# Altium footprint library FootPrintLib_2.PcbLib: 173 footprints (part 8 of 11)
Each footprint in its own frame and in the unit in brackets; x right, y up, seen from the top. Pads: shape width x height; smd on the part's side, far side on the other; paste and mask are expansions set on the pad; w line width, h text height; cw(c..) or ccw(c..) is an arc to the next point about the centre after c.
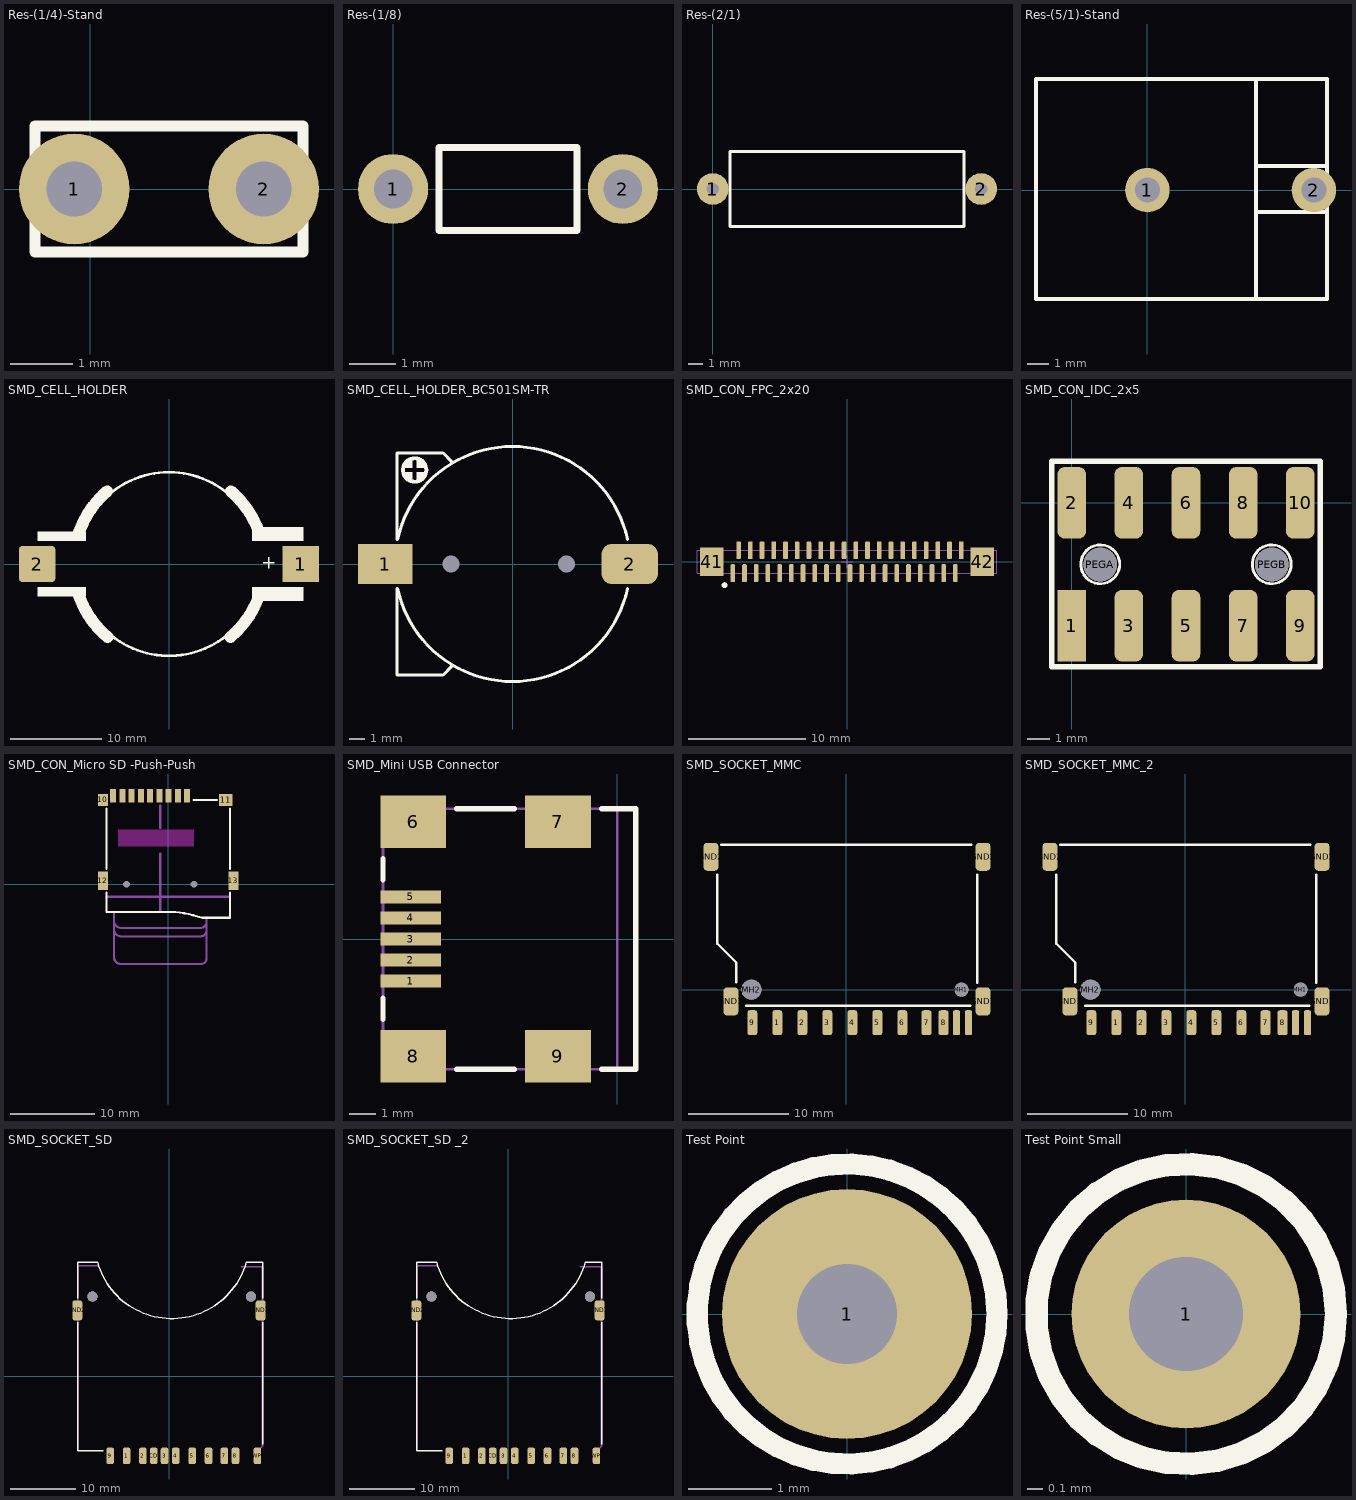
[diagram p7: the footprints below, top view; thin cyan lines are the x and y axes]

## Res-(1/4)-Stand [mil]
pads (2):
  round 70 hole 35: 1(-10,0) 2(110,0)
Top Overlay:
  lines w7: -35,-40 -35,40 135,40 135,-40 -35,-40
3D body "Res 0.25W_Stand.STEP": height 287.32, standoff -57.17, extent -35.08,-35.48 111.08,37

## Res-(1/8) [mil]
pads (2):
  round 60 hole 33: 1(0,0) 2(196.85,0)
Top Overlay:
  lines w5.91: 39.37,-35.43 157.48,-35.43 157.48,35.43 39.37,35.43 39.37,-35.43
3D body "Res_18.STEP": height 76.63, standoff -32.9, extent -9.84,-31.5 206.69,29.14

## Res-(2/1) [mm]
pads (2):
  round 2.2 hole 0.85: 1(0,0) 2(18.6,0)
Top Overlay:
  lines w0.2: 1.2,-2.6 1.2,2.6 17.4,2.6 17.4,-2.6 1.2,-2.6

## Res-(5/1)-Stand [mil]
pads (2):
  round 80 hole 45: 1(0,0) 2(300,0)
Top Overlay:
  lines w7: 195.69,-196 195.69,200 ; 195.69,-39.37 324,-39.37 ; 195.69,43.31 324,43.31 ; -200.79,-196 -200.79,200 324,200 324,-196 -200.79,-196
3D body "5W Res.STEP": height 907.48, standoff -94.49, extent -195.48,-194 319.48,199.7

## SMD_CELL_HOLDER [mm]
pads (2):
  rect 4x4 smd: 1(14.5,0)
  rrect20% 4x4 smd: 2(-14.5,0)
Top Overlay:
  region: 9.144,4.064 9.144,2.54 14.808,2.54 14.808,4.064
  region: 14.808,-4.064 14.808,-2.54 9.144,-2.54 9.144,-4.064
  region: -9.144,-3.556 -9.144,-2.54 -14.478,-2.54 -14.478,-3.556
  region: -14.478,3.556 -14.478,2.54 -9.144,2.54 -9.144,3.556
  lines w0.3: -7.122,-7.161 ccw(c0,0) 7.122,-7.161 ; -6.534,7.701 cw(c0,0) 6.534,7.701
  lines w1.3: -9.899,-3.5 ccw(c0,0) -6.771,-8.025 ; -9.897,3.508 cw(c0,0) -6.793,8.006 ; 6.771,-8.025 ccw(c0,0) 9.801,-3.766 ; 6.793,8.006 cw(c0,0) 9.801,3.766
  text "+" at 10.16,-0.508 h1.5
3D body "SMD_Cell_Holder_Full.STEP": height 5.4, standoff 0, extent -15.9,-10 15.9,10

## SMD_CELL_HOLDER_BC501SM-TR [mm] "BC501SM-TR Battery Holder (For CR1220 Cells)"
height 4
pads (4):
  rect 3.54x2.6 smd: 1(-8.25,0)
  rrect50% 3.66x2.6 smd: 2(7.6,0)
  round 0 hole 1.1: MH(-4,0) MH(3.5,0)
Top Overlay:
  circle w0.254: c-6.35,6.096 r0.762
  rectangle: -6.985,5.461 -6.477,5.969
  rectangle: -6.223,5.461 -5.715,5.969
  rectangle: -6.223,6.223 -5.715,6.727
  rectangle: -6.985,6.223 -6.477,6.727
  lines w0.2: -7.5,-1.584 -7.5,-7.2 -4.5,-7.2 -3.9,-6.6 ; -7.5,1.584 -7.5,7.2 -4.5,7.2 -3.9,6.6 ; -7.453,-1.584 ccw(c0,0) 7.453,-1.584 ; -7.453,1.584 cw(c0,0) 7.453,1.584

## SMD_CON_FPC_2x20 [mm] "FPC-XXS1VN3R"
pads (42):
  rrect50% 0.4x1.524 smd: 1(-9.75,-0.975) 2(-9.25,0.975) 3(-8.75,-0.975) 4(-8.25,0.975) 5(-7.75,-0.975) 6(-7.25,0.975) 7(-6.75,-0.975) 8(-6.25,0.975) 9(-5.75,-0.975) 10(-5.25,0.975) 11(-4.75,-0.975) 12(-4.25,0.975) 13(-3.75,-0.975) 14(-3.25,0.975) 15(-2.75,-0.975) 16(-2.25,0.975) 17(-1.75,-0.975) 18(-1.25,0.975) 19(-0.75,-0.975) 20(-0.25,0.975) 21(0.25,-0.975) 22(0.75,0.975) 23(1.25,-0.975) 24(1.75,0.975) 25(2.25,-0.975) 26(2.75,0.975) 27(3.25,-0.975) 28(3.75,0.975) 29(4.25,-0.975) 30(4.75,0.975) 31(5.25,-0.975) 32(5.75,0.975) 33(6.25,-0.975) 34(6.75,0.975) 35(7.25,-0.975) 36(7.75,0.975) 37(8.25,-0.975) 38(8.75,0.975) 39(9.25,-0.975) 40(9.75,0.975)
  rect 2x2.4 smd: 41(-11.55,0) 42(11.55,0)
Top Overlay:
  circle w0.25: c-10.45,-2 r0.125
Mechanical 13:
  lines w0.1: -12.8,-1 -12.8,1 12.8,1 12.8,-1 -12.8,-1
Mechanical 15:
  lines w0.1: -0.5,0 0.5,0 ; 0,-0.5 0,0.5
3D body "ZIF connector.stp": height 4.47, standoff -0.02, extent -12.118,-1.454 12.182,1.483

## SMD_CON_IDC_2x5 [mil]
pads (12):
  rect 50x125 smd: 1(0,-215)
  rrect50% 50x125 smd: 2(0,0) 3(100,-215) 4(100,0) 5(200,-215) 6(200,0) 7(300,-215) 8(300,0) 9(400,-215) 10(400,0)
  round 59.05 hole 59.06 unplated mask+1.5: PEGA(50,-108) PEGB(350,-108)
Top Overlay:
  circle w5: c50,-107.52 r34.06
  circle w5: c350,-107.52 r34.06
  lines w10: -35,-287 435,-287 435,73 -35,73 -35,-287
3D body "TSM-105-01-X-DV-A.STEP": height 10, standoff 0, extent -52.1,-253.2 447.9,36.8
3D body "10 Pin (2.5 mm Pitch) IDC Connector.stp": height 3028.11, standoff 154.09, extent -142.37,-270.25 538.38,60.45

## SMD_CON_Micro SD -Push-Push [mm]
pads (15):
  rect 0.7x1.6 smd: 1(2.25,10.5) 2(1.15,10.5) 3(0.05,10.5) 4(-1.05,10.5) 5(-2.15,10.5) 6(-3.25,10.5) 7(-4.35,10.5) 8(-5.45,10.5) 9(-6.55,10.5)
  rect 1.2x1.4 smd: 10(-7.75,10)
  rect 1.6x1.4 smd: 11(6.85,10)
  rect 1.2x2.2 smd: 12(-7.75,0.4) 13(7.75,0.4)
  round 0 hole 0.8: MH(-4.95,0) MH(3.05,0)
Top Overlay:
  lines w0.254: -7.35,-1 -7.35,-3.3 0,-3.3 0.293,-3.3 cw(c0.094,-13.815) 3.484,-3.859 ccw(c4.236,-1.806) 4.299,-3.992 ; -7.35,1.8 -7.35,9 ; 3,10 5.8,10 ; 4.299,-4 7.35,-4 7.35,-1 ; 7.35,1.8 7.35,9
Keep-Out Layer:
  rectangle: -5.95,4.5 3.05,6.5
Mechanical 13:
  lines w0.254: -6.45,-5.35 ccw(c-5.6,-5.35) -5.6,-6.2 3.85,-6.2 ccw(c3.85,-5.5) 4.55,-5.5 ; -6.45,-4.35 ccw(c-5.6,-4.35) -5.6,-5.2 3.85,-5.2 ccw(c3.85,-4.5) 4.55,-4.5 ; -6.45,-3.3 -6.45,-8.65 ccw(c-5.6,-8.65) -5.6,-9.5 3.85,-9.5 ccw(c3.85,-8.8) 4.55,-8.8 4.55,-4
  text "Card Push IN For Insertion" at -5.95,-4.9 h0.4
  text "Insulation Area" at -5.95,3.9 h0.4
  text "Card Fully Inserted" at -5.95,-5.85 h0.4
  text "Card Ejected" at -5.95,-9.1 h0.4
Mechanical 15:
  lines w0.254: -7.35,-1.5 7.35,-1.5 ; -0.95,-3.3 -0.95,3.625 ; -0.95,6.7 -0.95,9.35
  text "PCB Edge (1.8 MAX)" at -0.1,-1.2 h0.4
  text "Card Center" at -1.3,-1.1 h0.4

## SMD_Mini USB Connector [mm]
pads (9):
  rect 2.3x0.5 smd: 1(-7.85,-1.6) 2(-7.85,-0.8) 3(-7.85,0) 4(-7.85,0.8) 5(-7.85,1.6)
  rect 2.5x2 smd: 6(-7.75,4.45) 7(-2.25,4.45) 8(-7.75,-4.45) 9(-2.25,-4.45)
Top Overlay:
  lines w0.2: -8.9,-3.05 -8.9,-2.25 ; -8.9,2.25 -8.9,3.05 ; -6.1,-4.95 -3.9,-4.95 ; -6.1,4.95 -3.9,4.95 ; -0.6,-4.95 0.7,-4.95 0.7,4.95 -0.6,4.95
Mechanical 1:
  lines w0.1: 0,-4.95 0,4.95
  text "PCB Edge" at 0.432,-4.036 h0.25
Mechanical 13:
  lines w0.1: -8.9,-4.95 0.7,-4.95 0.7,4.95 -8.9,4.95 -8.9,-4.95
3D body "usb_a-usb_b-m5-smd-c.STEP": height 3.93, standoff -1, extent -8.6,-4.95 0.65,4.95

## SMD_SOCKET_MMC [mm]
height 2
pads (17):
  rrect50% 1x2.5 smd: 1(-6.915,-3.3) 2(-4.415,-3.3) 3(-1.915,-3.3) 4(0.585,-3.3) 5(3.085,-3.3) 6(5.585,-3.3) 7(8.01,-3.3) 8(9.71,-3.3) 9(-9.415,-3.3)
  rrect50% 0.7x2.5 smd: CD(11.01,-3.3) WP(12.21,-3.3)
  rrect50% 1.5x2.8 smd: GND1(-11.56,-1.166) GND1(13.66,-1.166) GND2(-13.544,13.3) GND2(13.66,13.3)
  round 1.4 hole 1.4: MH1(11.5,0)
  round 2 hole 2: MH2(-9.5,0)
Top Overlay:
  lines w0.254: -12.9,11.506 -12.9,4.6 -11,2.7 -11,0.764 ; -12.5,14.5 12.5,14.5 ; -10,-1.6 12.4,-1.6 ; 13.1,0.711 13.1,11.506
3D body "693063020911.stp": height 2.95, standoff -0.6, extent -13.39,-3.285 13.61,14.465
3D body "SD card.stp": height 2.23, standoff 0.13, extent -11.716,0.715 12.284,32.715

## SMD_SOCKET_MMC_2 [mm]
height 2
pads (17):
  rrect50% 1x2.5 smd: 1(-6.915,-3.3) 2(-4.415,-3.3) 3(-1.915,-3.3) 4(0.585,-3.3) 5(3.085,-3.3) 6(5.585,-3.3) 7(8.01,-3.3) 8(9.71,-3.3) 9(-9.415,-3.3)
  rrect50% 0.7x2.5 smd: CD(11.01,-3.3) WP(12.21,-3.3)
  rrect50% 1.5x2.8 smd: GND1(-11.56,-1.166) GND1(13.66,-1.166) GND2(-13.544,13.3) GND2(13.66,13.3)
  round 1.4 hole 1.4: MH1(11.5,0)
  round 2 hole 2: MH2(-9.5,0)
Top Overlay:
  lines w0.254: -12.9,11.506 -12.9,4.6 -11,2.7 -11,0.764 ; -12.5,14.5 12.5,14.5 ; -10,-1.6 12.4,-1.6 ; 13.1,0.711 13.1,11.506
3D body "693063020911.stp": height 2.95, standoff -0.6, extent -13.39,-3.285 13.61,14.465

## SMD_SOCKET_SD [mm] "KSDC012551"
pads (15):
  rrect50% 1.16x2.5 smd: 1(-6.48,-12.15) 2(-3.98,-12.15) 3(-0.68,-12.15) 4(1.03,-12.15) 5(3.53,-12.15) 6(6.03,-12.15) 7(8.45,-12.15) 8(10.15,-12.15) 9(-8.98,-12.15) CD(-2.33,-12.15) WP(13.5,-12.15)
  rrect50% 1.524x3.048 smd: GND1(14,10.05) GND2(-14,10.05)
  round 1.55 hole 1.55 unplated: MH1(12.5,12.15) MH2(-11.7,12.15)
Top Overlay:
  lines w0.2: -13.919,8.255 -13.919,-11.4 -10,-11.4 ; -13.919,11.938 -13.919,17.396 -10.915,17.396 ccw(c0.441,20.6) 11.799,17.4 14.275,17.4 14.275,11.938 ; 14.275,-10.414 14.275,8.255
Mechanical 13:
  lines w0.254: -13.919,-11.024 -13.919,16.662 -13.716,16.866 -10.871,16.866 ; 11.024,16.739 14.122,16.739 14.275,16.586 14.275,-10.684 13.813,-11.146
3D body "SD card.stp": height 2.23, standoff 0.13, extent -11.58,-10.395 12.42,21.605
3D body "c-1734472-1-a2-3d.stp": height 2.73, standoff -0.63, extent -14.3,-12.573 14.2,17.727

## SMD_SOCKET_SD _2 [mm] "KSDC012551"
pads (15):
  rrect50% 1.16x2.5 smd: 1(-6.48,-12.15) 2(-3.98,-12.15) 3(-0.68,-12.15) 4(1.03,-12.15) 5(3.53,-12.15) 6(6.03,-12.15) 7(8.45,-12.15) 8(10.15,-12.15) 9(-8.98,-12.15) CD(-2.33,-12.15) WP(13.5,-12.15)
  rrect50% 1.524x3.048 smd: GND1(14,10.05) GND2(-14,10.05)
  round 1.55 hole 1.55 unplated: MH1(12.5,12.15) MH2(-11.7,12.15)
Top Overlay:
  lines w0.2: -13.919,8.255 -13.919,-11.4 -10,-11.4 ; -13.919,11.938 -13.919,17.396 -10.915,17.396 ccw(c0.441,20.6) 11.799,17.4 14.275,17.4 14.275,11.938 ; 14.275,-10.414 14.275,8.255
Mechanical 13:
  lines w0.254: -13.919,-11.024 -13.919,16.662 -13.716,16.866 -10.871,16.866 ; 11.024,16.739 14.122,16.739 14.275,16.586 14.275,-10.684 13.813,-11.146
3D body "c-1734472-1-a2-3d.stp": height 2.73, standoff -0.63, extent -14.3,-12.573 14.2,17.727

## Test Point [mm]
pads (1):
  round 3 hole 1.2: 1(0,0)
Top Overlay:
  circle w0.254: c0,0 r1.8
3D body "User Library-testpoint.step": height 5.65, standoff -3.23, extent -1.587,-1.585 1.587,1.59

## Test Point Small [mil]
pads (1):
  round 60 hole 30: 1(0,0)
Top Overlay:
  circle w5.91: c0,0 r39.37
3D body "SW3DPS-TEST POINT-DEFAULT.step": height 255.91, standoff -118.11, extent -19.68,-19.69 19.69,19.69